# EAGLE library part PA_LIBERTA_BRD (library PatternAgents-Boards)
PatternAgents Liberta' Shield Pattern Source LBR : http://www.patternagents.com Github : https://github.com/patternagents License : http://creativecommons.org/licenses/by-sa/4.0/ (Creative Commons 4.0) THIS SOFTWARE IS PROVIDED BY THE CONTRIBUTORS "AS IS" AND WITHOUT ANY EXPRESS OR IMPLIED WARRANTIES, INCLUDING, BUT NOT LIMITED TO, THE IMPLIED WARRANTIES OF MERCHANTABILITY AND FITNESS FOR A PARTICULAR PURPOSE ARE DISCLAIMED. IN NO EVENT SHALL THE COPYRIGHT OWNER OR CONTRIBUTORS BE LIABLE FOR ANY DIRECT, INDIRECT, INCIDENTAL, SPECIAL, EXEMPLARY, OR CONSEQUENTIAL DAMAGES (INCLUDING, BUT NOT LIMITED TO, PROCUREMENT OF SUBSTITUTE GOODS OR SERVICES; LOSS OF USE, DATA, OR PROFITS; OR BUSINESS INTERRUPTION) HOWEVER CAUSED AND ON ANY THEORY OF LIABILITY, WHETHER IN CONTRACT, STRICT LIABILITY, OR TORT (INCLUDING NEGLIGENCE OR OTHERWISE) ARISING IN ANY WAY OUT OF THE USE OF THIS SOFTWARE, EVEN IF ADVISED OF THE POSSIBILITY OF SUCH DAMAGE.
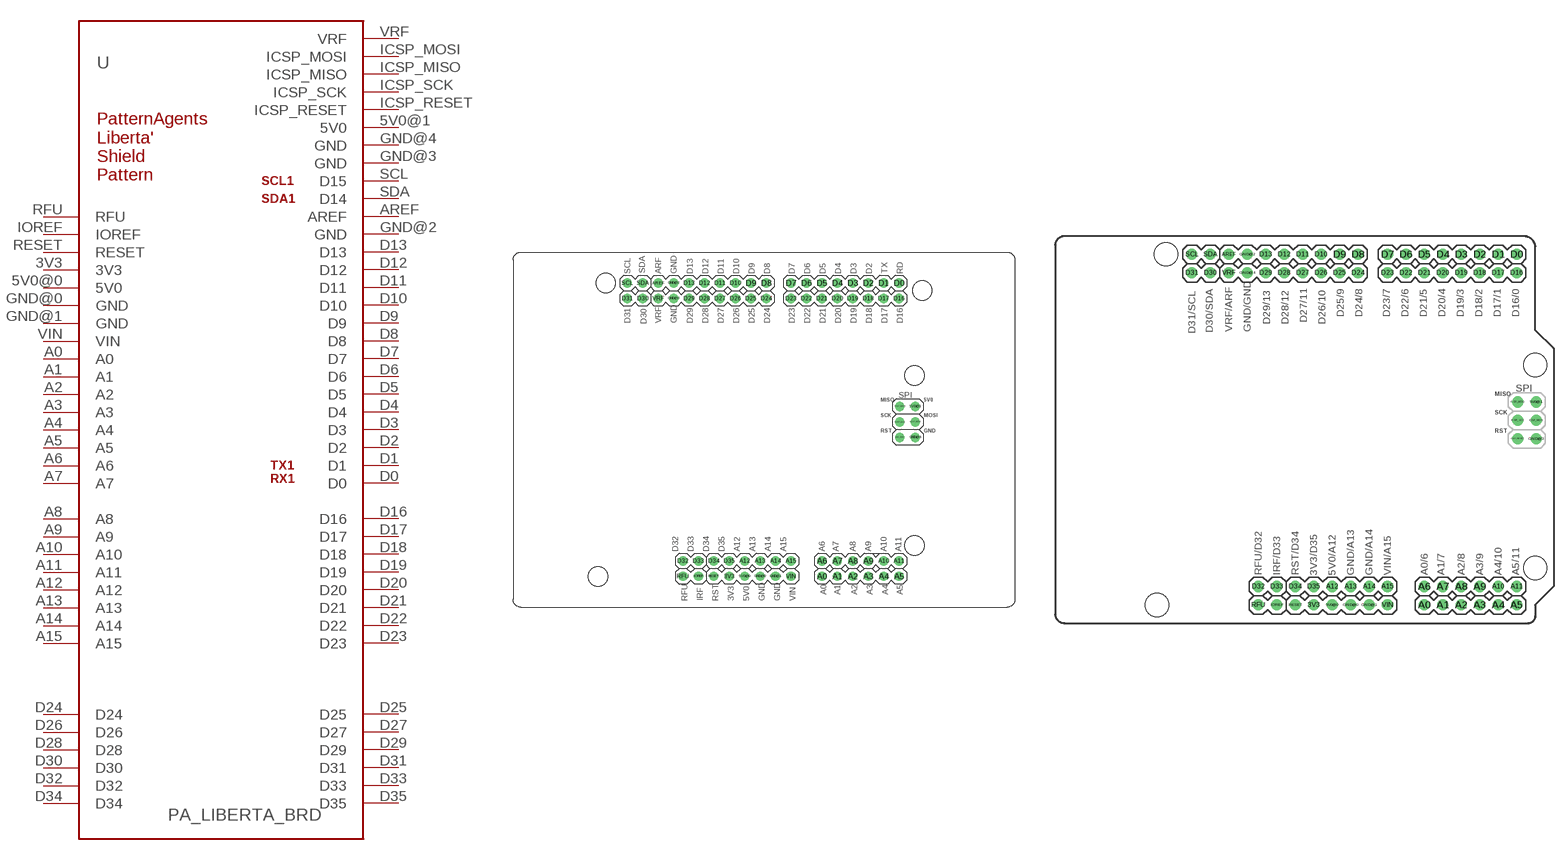
[diagram p2: symbol with the pads of PA_LIBERTA_MED; footprints PA_LIBERTA_MED, PA_LIBERTA]

Designator prefix -

## PA_LIBERTA_BRDMED  [PA_LIBERTA_MED]
3V3  3V3
5V0@0  5V0
5V0@1  5V0  pwr
A0  A0
A1  A1
A2  A2
A3  A3
A4  A4
A5  A5
A6  A6
A7  A7
A8  A8
A9  A9
A10  A10
A11  A11
A12  A12
A13  A13
A14  A14
A15  A15
AREF  AREF
D0  D0
D1  D1
D2  D2
D3  D3
D4  D4
D5  D5
D6  D6
D7  D7
D8  D8
D9  D9
D10  D10
D11  D11
D12  D12
D13  D13
D16  D16
D17  D17
D18  D18
D19  D19
D20  D20
D21  D21
D22  D22
D23  D23
D24  D24
D25  D25
D26  D26
D27  D27
D28  D28
D29  D29
D30  D30
D31  D31
D32  D32
D33  D33
D34  D34
D35  D35
GND@0  GND
GND@1  GND
GND@2  GND
GND@3  GND
GND@4  GND  pwr
ICSP_MISO  ICSP_MISO
ICSP_MOSI  ICSP_MOSI
ICSP_RESET  ICSP_RESET
ICSP_SCK  ICSP_SCK
IOREF  IOREF  out
RESET  RESET
RFU  RFU  pwr
SCL  D15
SDA  D14
VIN  VIN
VRF  VRF  pwr

## PA_LIBERTA_BRD  [PA_LIBERTA]
Pads as for PA_LIBERTA_MED

## PA_LIBERTA_BRDLRG  [PA_LIBERTA_LRG]
Pads as for PA_LIBERTA_MED

## Footprint PA_LIBERTA_MED (pad centres in mm)
PatternAgents Liberta' (Medium) Shield Pattern Source LBR : http://www.patternagents.com Github : https://github.com/patternagents License : http://creativecommons.org/licenses/by-sa/4.0/ (Creative Commons 4.0) THIS SOFTWARE IS PROVIDED BY THE CONTRIBUTORS "AS IS" AND WITHOUT ANY EXPRESS OR IMPLIED WARRANTIES, INCLUDING, BUT NOT LIMITED TO, THE IMPLIED WARRANTIES OF MERCHANTABILITY AND FITNESS FOR A PARTICULAR PURPOSE ARE DISCLAIMED. IN NO EVENT SHALL THE COPYRIGHT OWNER OR CONTRIBUTORS BE LIABLE FOR ANY DIRECT, INDIRECT, INCIDENTAL, SPECIAL, EXEMPLARY, OR CONSEQUENTIAL DAMAGES (INCLUDING, BUT NOT LIMITED TO, PROCUREMENT OF SUBSTITUTE GOODS OR SERVICES; LOSS OF USE, DATA, OR PROFITS; OR BUSINESS INTERRUPTION) HOWEVER CAUSED AND ON ANY THEORY OF LIABILITY, WHETHER IN CONTRACT, STRICT LIABILITY, OR TORT (INCLUDING NEGLIGENCE OR OTHERWISE) ARISING IN ANY WAY OUT OF THE USE OF THIS SOFTWARE, EVEN IF ADVISED OF THE POSSIBILITY OF SUCH DAMAGE.
drill 1.016: 3V3 35.56,5.08; 5V0@0 38.1,5.08; 5V0@1 66.167,33.02; A0 50.8,5.08; A1 53.34,5.08; A2 55.88,5.08; A3 58.42,5.08; A4 60.96,5.08; A5 63.5,5.08; A6 50.8,7.62; A7 53.34,7.62; A8 55.88,7.62; A9 58.42,7.62; A10 60.96,7.62; A11 63.5,7.62; A12 38.1,7.62; A13 40.64,7.62; A14 43.18,7.62; A15 45.72,7.62; AREF 23.876,53.34; D0 63.5,53.34; D1 60.96,53.34; D2 58.42,53.34; D3 55.88,53.34; D4 53.34,53.34; D5 50.8,53.34; D6 48.26,53.34; D7 45.72,53.34; D8 41.656,53.34; D9 39.116,53.34; D10 36.576,53.34; D11 34.036,53.34; D12 31.496,53.34; D13 28.956,53.34; D16 63.5,50.8; D17 60.96,50.8; D18 58.42,50.8; D19 55.88,50.8; D20 53.34,50.8; D21 50.8,50.8; D22 48.26,50.8; D23 45.72,50.8; D24 41.656,50.8; D25 39.116,50.8; D26 36.576,50.8; D27 34.036,50.8; D28 31.496,50.8; D29 28.956,50.8; D30 21.336,50.8; D31 18.796,50.8; D32 27.94,7.62; D33 30.48,7.62; D34 33.02,7.62; D35 35.56,7.62; GND@0 40.64,5.08; GND@1 43.18,5.08; GND@2 26.416,53.34; GND@3 26.416,50.8; GND@4 66.167,27.94; ICSP_MISO 63.627,33.02; ICSP_MOSI 66.167,30.48; ICSP_RESET 63.627,27.94; ICSP_SCK 63.627,30.48; IOREF 30.48,5.08; RESET 33.02,5.08; RFU 27.94,5.08; SCL 18.796,53.34; SDA 21.336,53.34; VIN 45.72,5.08; VRF 23.876,50.8
hole 3.2 at 15.24,53.34
hole 3.2 at 13.97,5.08
hole 3.2 at 67.31,52.07
hole 3.2 at 66.04,38.1
hole 3.2 at 66.04,10.16

## Footprint PA_LIBERTA (pad centres in mm)
PatternAgents Liberta' Shield Pattern Source LBR : http://www.patternagents.com Github : https://github.com/patternagents License : http://creativecommons.org/licenses/by-sa/4.0/ (Creative Commons 4.0) THIS SOFTWARE IS PROVIDED BY THE CONTRIBUTORS "AS IS" AND WITHOUT ANY EXPRESS OR IMPLIED WARRANTIES, INCLUDING, BUT NOT LIMITED TO, THE IMPLIED WARRANTIES OF MERCHANTABILITY AND FITNESS FOR A PARTICULAR PURPOSE ARE DISCLAIMED. IN NO EVENT SHALL THE COPYRIGHT OWNER OR CONTRIBUTORS BE LIABLE FOR ANY DIRECT, INDIRECT, INCIDENTAL, SPECIAL, EXEMPLARY, OR CONSEQUENTIAL DAMAGES (INCLUDING, BUT NOT LIMITED TO, PROCUREMENT OF SUBSTITUTE GOODS OR SERVICES; LOSS OF USE, DATA, OR PROFITS; OR BUSINESS INTERRUPTION) HOWEVER CAUSED AND ON ANY THEORY OF LIABILITY, WHETHER IN CONTRACT, STRICT LIABILITY, OR TORT (INCLUDING NEGLIGENCE OR OTHERWISE) ARISING IN ANY WAY OUT OF THE USE OF THIS SOFTWARE, EVEN IF ADVISED OF THE POSSIBILITY OF SUCH DAMAGE.
drill 1.016: 3V3 35.56,2.54; 5V0@0 38.1,2.54; 5V0@1 66.167,30.48; A0 50.8,2.54; A1 53.34,2.54; A2 55.88,2.54; A3 58.42,2.54; A4 60.96,2.54; A5 63.5,2.54; A6 50.8,5.08; A7 53.34,5.08; A8 55.88,5.08; A9 58.42,5.08; A10 60.96,5.08; A11 63.5,5.08; A12 38.1,5.08; A13 40.64,5.08; A14 43.18,5.08; A15 45.72,5.08; AREF 23.876,50.8; D0 63.5,50.8; D1 60.96,50.8; D2 58.42,50.8; D3 55.88,50.8; D4 53.34,50.8; D5 50.8,50.8; D6 48.26,50.8; D7 45.72,50.8; D8 41.656,50.8; D9 39.116,50.8; D10 36.576,50.8; D11 34.036,50.8; D12 31.496,50.8; D13 28.956,50.8; D16 63.5,48.26; D17 60.96,48.26; D18 58.42,48.26; D19 55.88,48.26; D20 53.34,48.26; D21 50.8,48.26; D22 48.26,48.26; D23 45.72,48.26; D24 41.656,48.26; D25 39.116,48.26; D26 36.576,48.26; D27 34.036,48.26; D28 31.496,48.26; D29 28.956,48.26; D30 21.336,48.26; D31 18.796,48.26; D32 27.94,5.08; D33 30.48,5.08; D34 33.02,5.08; D35 35.56,5.08; GND@0 40.64,2.54; GND@1 43.18,2.54; GND@2 26.416,50.8; GND@3 66.167,25.4; GND@4 26.416,48.26; ICSP_MISO 63.627,30.48; ICSP_MOSI 66.167,27.94; ICSP_RESET 63.627,25.4; ICSP_SCK 63.627,27.94; IOREF 30.48,2.54; RESET 33.02,2.54; RFU 27.94,2.54; SCL 18.796,50.8; SDA 21.336,50.8; VIN 45.72,2.54; VRF 23.876,48.26
hole 3.2 at 15.24,50.8
hole 3.2 at 13.97,2.54
hole 3.2 at 66.04,35.56
hole 3.2 at 66.04,7.62

## Footprint PA_LIBERTA_LRG (pad centres in mm)
PatternAgents Liberta' (Large) Shield Pattern Source LBR : http://www.patternagents.com Github : https://github.com/patternagents License : http://creativecommons.org/licenses/by-sa/4.0/ (Creative Commons 4.0) THIS SOFTWARE IS PROVIDED BY THE CONTRIBUTORS "AS IS" AND WITHOUT ANY EXPRESS OR IMPLIED WARRANTIES, INCLUDING, BUT NOT LIMITED TO, THE IMPLIED WARRANTIES OF MERCHANTABILITY AND FITNESS FOR A PARTICULAR PURPOSE ARE DISCLAIMED. IN NO EVENT SHALL THE COPYRIGHT OWNER OR CONTRIBUTORS BE LIABLE FOR ANY DIRECT, INDIRECT, INCIDENTAL, SPECIAL, EXEMPLARY, OR CONSEQUENTIAL DAMAGES (INCLUDING, BUT NOT LIMITED TO, PROCUREMENT OF SUBSTITUTE GOODS OR SERVICES; LOSS OF USE, DATA, OR PROFITS; OR BUSINESS INTERRUPTION) HOWEVER CAUSED AND ON ANY THEORY OF LIABILITY, WHETHER IN CONTRACT, STRICT LIABILITY, OR TORT (INCLUDING NEGLIGENCE OR OTHERWISE) ARISING IN ANY WAY OUT OF THE USE OF THIS SOFTWARE, EVEN IF ADVISED OF THE POSSIBILITY OF SUCH DAMAGE.
drill 1.016: 3V3 35.56,5.08; 5V0@0 38.1,5.08; 5V0@1 66.167,33.02; A0 50.8,5.08; A1 53.34,5.08; A2 55.88,5.08; A3 58.42,5.08; A4 60.96,5.08; A5 63.5,5.08; A6 50.8,7.62; A7 53.34,7.62; A8 55.88,7.62; A9 58.42,7.62; A10 60.96,7.62; A11 63.5,7.62; A12 38.1,7.62; A13 40.64,7.62; A14 43.18,7.62; A15 45.72,7.62; AREF 23.876,53.34; D0 63.5,53.34; D1 60.96,53.34; D2 58.42,53.34; D3 55.88,53.34; D4 53.34,53.34; D5 50.8,53.34; D6 48.26,53.34; D7 45.72,53.34; D8 41.656,53.34; D9 39.116,53.34; D10 36.576,53.34; D11 34.036,53.34; D12 31.496,53.34; D13 28.956,53.34; D16 63.5,50.8; D17 60.96,50.8; D18 58.42,50.8; D19 55.88,50.8; D20 53.34,50.8; D21 50.8,50.8; D22 48.26,50.8; D23 45.72,50.8; D24 41.656,50.8; D25 39.116,50.8; D26 36.576,50.8; D27 34.036,50.8; D28 31.496,50.8; D29 28.956,50.8; D30 21.336,50.8; D31 18.796,50.8; D32 27.94,7.62; D33 30.48,7.62; D34 33.02,7.62; D35 35.56,7.62; GND@0 40.64,5.08; GND@1 43.18,5.08; GND@2 26.416,53.34; GND@3 26.416,50.8; GND@4 66.167,27.94; ICSP_MISO 63.627,33.02; ICSP_MOSI 66.167,30.48; ICSP_RESET 63.627,27.94; ICSP_SCK 63.627,30.48; IOREF 30.48,5.08; RESET 33.02,5.08; RFU 27.94,5.08; SCL 18.796,53.34; SDA 21.336,53.34; VIN 45.72,5.08; VRF 23.876,50.8
hole 3.2 at 15.24,53.34
hole 3.2 at 13.97,5.08
hole 3.2 at 67.31,52.07
hole 3.2 at 66.04,38.1
hole 3.2 at 66.04,10.16
hole 3.2 at 90.17,53.34
hole 3.2 at 96.52,5.08